# Altium schematic symbol library NRH3010T100MN.SchLib: 1 symbol
Pins are listed as number, name and electrical type; pins without a type are passive.

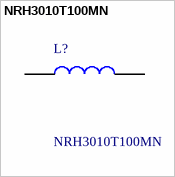
[diagram p0: symbol NRH3010T100MN]

## NRH3010T100MN
designator L?
Manufacturer_Name: TAIYO YUDEN; Geometry.Height: 1mm; Mouser Part Number: 963-NRH3010T100MN; Mouser Price/Stock: https://www.mouser.co.uk/ProductDetail/TAIYO-YUDEN/NRH3010T100MN?qs=PzICbMaShUd95UUkPGlXbA%3D%3D; Manufacturer_Part_Number: NRH3010T100MN; Description: NRH3010T100MN; Datasheet Link: https://ds.yuden.co.jp/TYCOMPAS/ut/detail?pn=NRH3010T100MN  &u=M
footprint NRH3010T100MN
pins: 1, 2